# Altium schematic symbol library Schlib2.SchLib: 6 symbols
Pins are listed as number, name and electrical type; pins without a type are passive.

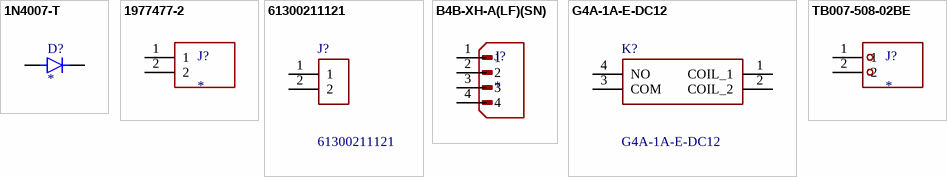
[diagram p0: symbols 1N4007-T to TB007-508-02BE]

## 1N4007-T
designator D?
Diode Standard 1000 V 1A Through Hole DO-41; MF: Yangjie Technology; MP: 1N4007; SnapEDA_Link: https://www.snapeda.com/parts/1N4007/Yangjie+Electronic+Technology/view-part/?ref=snap; Package: DO-41 NTE Electronics; Value: *; Check_prices: https://www.snapeda.com/parts/1N4007/Yangjie+Electronic+Technology/view-part/?ref=eda; LCSC Part Number: C78736
footprint DIOAD780W78L463D236
pins: A, K

## 1977477-2
designator J?
Buchanan, Module Dual Barrier, .325 CL, 2 Pos. | TE Connectivity 1977477-2; SnapEDA_Link: https://www.snapeda.com/parts/1977477-2/TE+Connectivity+AMP+Connectors/view-part/?ref=snap; Package: None; Value: *; MF: TE Connectivity; MP: 1977477-2; Check_prices: https://www.snapeda.com/parts/1977477-2/TE+Connectivity+AMP+Connectors/view-part/?ref=eda
footprint TE_1977477-2
pins: 1, 2

## 61300211121
designator J?
WURTH ELEKTRONIK - 61300211121 - HEADER, 2.54MM, PIN, THT, VERTICAL, 2WAY; Geometry.Height: 8.54mm; Mouser Part Number: 710-61300211121; Mouser Price/Stock: https://www.mouser.co.uk/ProductDetail/Wurth-Elektronik/61300211121?qs=t4813l51qx%252B1A5GYDQxPlw%3D%3D; Manufacturer_Name: Wurth Elektronik; Manufacturer_Part_Number: 61300211121; Datasheet Link: https://componentsearchengine.com/Datasheets/2/61300211121.pdf
footprint HDRV2W110P0X254_1X2_508X254X854P
pins: 1, 2

## B4B-XH-A(LF)(SN)
designator J?
Connector Header Through Hole 4 position 0.098 (2.50mm); MF: JST Sales; MP: B4B-XH-A(LF)(SN); SnapEDA_Link: https://www.snapeda.com/parts/B4B-XH-A(LF)(SN)/JST+Sales+America+Inc./view-part/?ref=snap; Package: None; Value: *; Check_prices: https://www.snapeda.com/parts/B4B-XH-A(LF)(SN)/JST+Sales+America+Inc./view-part/?ref=eda; LCSC Part Number: C144395
footprint JST_B4B-XH-A(LF)(SN)
pins: 1, 2, 3, 4

## G4A-1A-E-DC12
designator K?
General Purpose Relays SPST-NO 12VDC PCB & QC; Manufacturer_Name: Omron Electronics; Geometry.Height: 33.5mm; Mouser Part Number: 653-G4A-1AE-DC12; Mouser Price/Stock: https://www.mouser.co.uk/ProductDetail/Omron-Electronics/G4A-1A-E-DC12?qs=sQVrL4YZhsSR4KC%252B99SM1w%3D%3D; Manufacturer_Part_Number: G4A-1A-E-DC12; Datasheet Link: https://omronfs.omron.com/en_US/ecb/products/pdf/en-g4a.pdf; LCSC Part Number: C1563460
footprint G4A1AEDC12
pins: 1 COIL_1, 2 COIL_2, 3 COM, 4 NO

## TB007-508-02BE
designator J?
2~24 Poles, Screw Type, Horizontal, 5.08 Pitch, 24~12 (AWG), Terminal Block Connector; MF: Same Sky; MP: TB007-508-02BE; SnapEDA_Link: https://www.snapeda.com/parts/TB007-508-02BE/Same+Sky/view-part/?ref=snap; Package: None; Value: *; Check_prices: https://www.snapeda.com/parts/TB007-508-02BE/Same+Sky/view-part/?ref=eda; LCSC Part Number: C3816270
footprint CUI_TB007-508-02BE
footprint CUI_TB007-508-02BE
pins: 1, 2